# EAGLE library part AD8420 (library op-amp)
IC OPAMP INSTR 250KHZ RRO
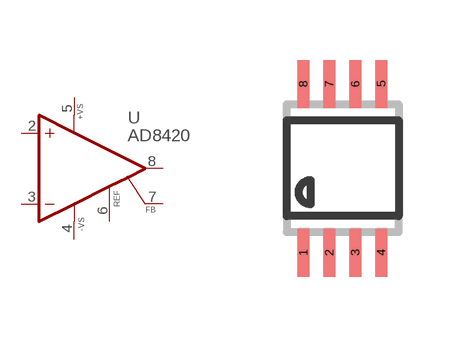
[diagram p91: symbol with the pads of MSOP08; footprint MSOP08]

Designator prefix U

## AD8420RM  [MSOP08]
2  +IN  in
3  -IN  in
4  -VS  pwr
5  +VS  pwr
6  REF  pwr
7  FB  pwr
8  VOUT  out

## Footprint MSOP08 (pad centres in mm)
Mini Small Outline Package
smd 0.3 x 1.2: 1 -0.976,-2.113; 2 -0.326,-2.113; 3 0.324,-2.113; 4 0.974,-2.113; 5 0.974,2.112; 6 0.324,2.112; 7 -0.326,2.112; 8 -0.976,2.112